# Altium schematic symbol library WRA2415D-10W.SchLib: 1 symbol
Pins are listed as number, name and electrical type; pins without a type are passive.

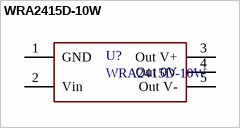
[diagram p0: symbol WRA2415D-10W]

## WRA2415D-10W
designator U?
DC-DC
footprint WRA2415D-10W
pins: 1 GND "Termal Pad", 2 Vin "Termal Pad", 3 Out V+ "Termal Pad", 4 Out 0V "Termal Pad", 5 Out V- "Termal Pad"